# EAGLE library part 9S12NE64 (library JLB6_Processor)
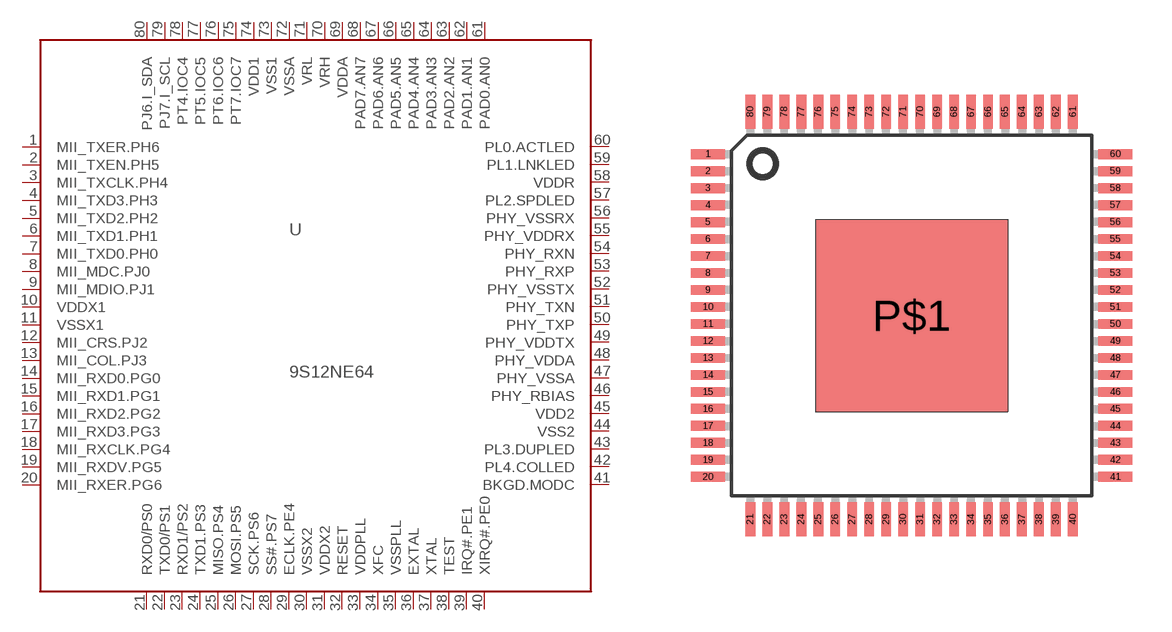
[diagram p1: symbol with the pads of TQFP-EP-80; footprint TQFP-EP-80]

Designator prefix U

## 9S12NE64  [TQFP-EP-80]
1  MII_TXER.PH6
2  MII_TXEN.PH5
3  MII_TXCLK.PH4
4  MII_TXD3.PH3
5  MII_TXD2.PH2
6  MII_TXD1.PH1
7  MII_TXD0.PH0
8  MII_MDC.PJ0
9  MII_MDIO.PJ1
10  VDDX1  pwr
11  VSSX1  pwr
12  MII_CRS.PJ2
13  MII_COL.PJ3
14  MII_RXD0.PG0
15  MII_RXD1.PG1
16  MII_RXD2.PG2
17  MII_RXD3.PG3
18  MII_RXCLK.PG4
19  MII_RXDV.PG5
20  MII_RXER.PG6
21  RXD0/PS0
22  TXD0/PS1
23  RXD1/PS2
24  TXD1.PS3
25  MISO.PS4
26  MOSI.PS5
27  SCK.PS6
28  SS#.PS7
29  ECLK.PE4
30  VSSX2  pwr
31  VDDX2  pwr
32  RESET
33  VDDPLL  pwr
34  XFC
35  VSSPLL  pwr
36  EXTAL
37  XTAL
38  TEST
39  IRQ#.PE1
40  XIRQ#.PE0
41  BKGD.MODC
42  PL4.COLLED
43  PL3.DUPLED
44  VSS2  pwr
45  VDD2  pwr
46  PHY_RBIAS
47  PHY_VSSA  pwr
48  PHY_VDDA  pwr
49  PHY_VDDTX  pwr
50  PHY_TXP
51  PHY_TXN
52  PHY_VSSTX  pwr
53  PHY_RXP
54  PHY_RXN
55  PHY_VDDRX  pwr
56  PHY_VSSRX  pwr
57  PL2.SPDLED
58  VDDR  pwr
59  PL1.LNKLED
60  PL0.ACTLED
61  PAD0.AN0
62  PAD1.AN1
63  PAD2.AN2
64  PAD3.AN3
65  PAD4.AN4
66  PAD5.AN5
67  PAD6.AN6
68  PAD7.AN7
69  VDDA  pwr
70  VRH  pwr
71  VRL  pwr
72  VSSA  pwr
73  VSS1  pwr
74  VDD1  pwr
75  PT7.IOC7
76  PT6.IOC6
77  PT5.IOC5
78  PT4.IOC4
79  PJ7.I_SCL
80  PJ6.I_SDA

## Footprint TQFP-EP-80 (pad centres in mm)
smd 1.3 x 0.38: 1 -7.795,6.175; 2 -7.795,5.525; 3 -7.795,4.875; 4 -7.795,4.225; 5 -7.795,3.575; 6 -7.795,2.925; 7 -7.795,2.275; 8 -7.795,1.625; 9 -7.795,0.975; 10 -7.795,0.325; 11 -7.795,-0.325; 12 -7.795,-0.975; 13 -7.795,-1.625; 14 -7.795,-2.275; 15 -7.795,-2.925; 16 -7.795,-3.575; 17 -7.795,-4.225; 18 -7.795,-4.875; 19 -7.795,-5.525; 20 -7.795,-6.175; 41 7.795,-6.175; 42 7.795,-5.525; 43 7.795,-4.875; 44 7.795,-4.225; 45 7.795,-3.575; 46 7.795,-2.925; 47 7.795,-2.275; 48 7.795,-1.625; 49 7.795,-0.975; 50 7.795,-0.325; 51 7.795,0.325; 52 7.795,0.975; 53 7.795,1.625; 54 7.795,2.275; 55 7.795,2.925; 56 7.795,3.575; 57 7.795,4.225; 58 7.795,4.875; 59 7.795,5.525; 60 7.795,6.175
smd 0.38 x 1.3: 21 -6.175,-7.795; 22 -5.525,-7.795; 23 -4.875,-7.795; 24 -4.225,-7.795; 25 -3.575,-7.795; 26 -2.925,-7.795; 27 -2.275,-7.795; 28 -1.625,-7.795; 29 -0.975,-7.795; 30 -0.325,-7.795; 31 0.325,-7.795; 32 0.975,-7.795; 33 1.625,-7.795; 34 2.275,-7.795; 35 2.925,-7.795; 36 3.575,-7.795; 37 4.225,-7.795; 38 4.875,-7.795; 39 5.525,-7.795; 40 6.175,-7.795; 61 6.175,7.795; 62 5.525,7.795; 63 4.875,7.795; 64 4.225,7.795; 65 3.575,7.795; 66 2.925,7.795; 67 2.275,7.795; 68 1.625,7.795; 69 0.975,7.795; 70 0.325,7.795; 71 -0.325,7.795; 72 -0.975,7.795; 73 -1.625,7.795; 74 -2.275,7.795; 75 -2.925,7.795; 76 -3.575,7.795; 77 -4.225,7.795; 78 -4.875,7.795; 79 -5.525,7.795; 80 -6.175,7.795
smd 7.366 x 7.366: P$1 0,0